# EAGLE library part MULTICOMP (library multicomp)
MULTICOMP DIP-SWITCH 8pol 1.27mm
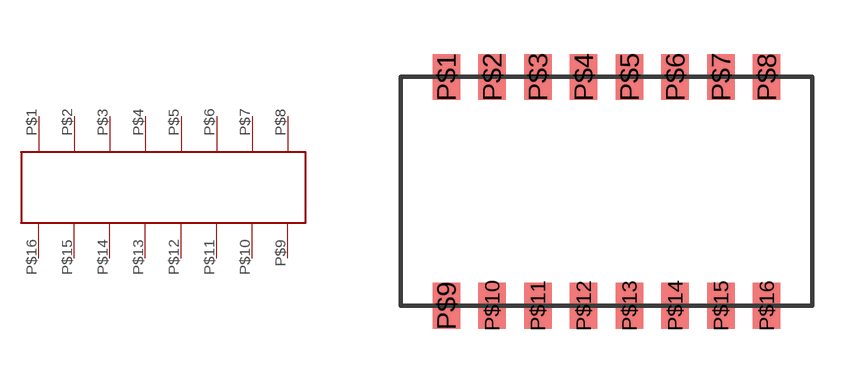
[diagram p0: symbol with the pads of MULTICOMP; footprint MULTICOMP]

Designator prefix -

## MULTICOMP  [MULTICOMP]
P$1  1
P$2  P$2
P$3  P$3
P$4  P$4
P$5  P$5
P$6  P$6
P$7  P$7
P$8  P$8
P$9  P$9
P$10  P$10
P$11  P$11
P$12  P$12
P$13  P$13
P$14  P$14
P$15  P$15
P$16  P$16

## Footprint MULTICOMP (pad centres in mm)
smd 0.76 x 1.27: P$1 0,-1.27; P$2 1.27,-1.27; P$3 2.54,-1.27; P$4 3.81,-1.27; P$5 5.08,-1.27; P$6 6.35,-1.27; P$7 7.62,-1.27; P$8 8.89,-1.27; P$9 0,-7.62; P$10 1.27,-7.62; P$11 2.54,-7.62; P$12 3.81,-7.62; P$13 5.08,-7.62; P$14 6.35,-7.62; P$15 7.62,-7.62; P$16 8.89,-7.62